# Altium footprint library Inductors_TH.PcbLib: 26 footprints (part 1 of 2)
Each footprint in its own frame and in the unit in brackets; x right, y up, seen from the top. Pads: shape width x height; smd on the part's side, far side on the other; paste and mask are expansions set on the pad; w line width, h text height; cw(c..) or ccw(c..) is an arc to the next point about the centre after c.
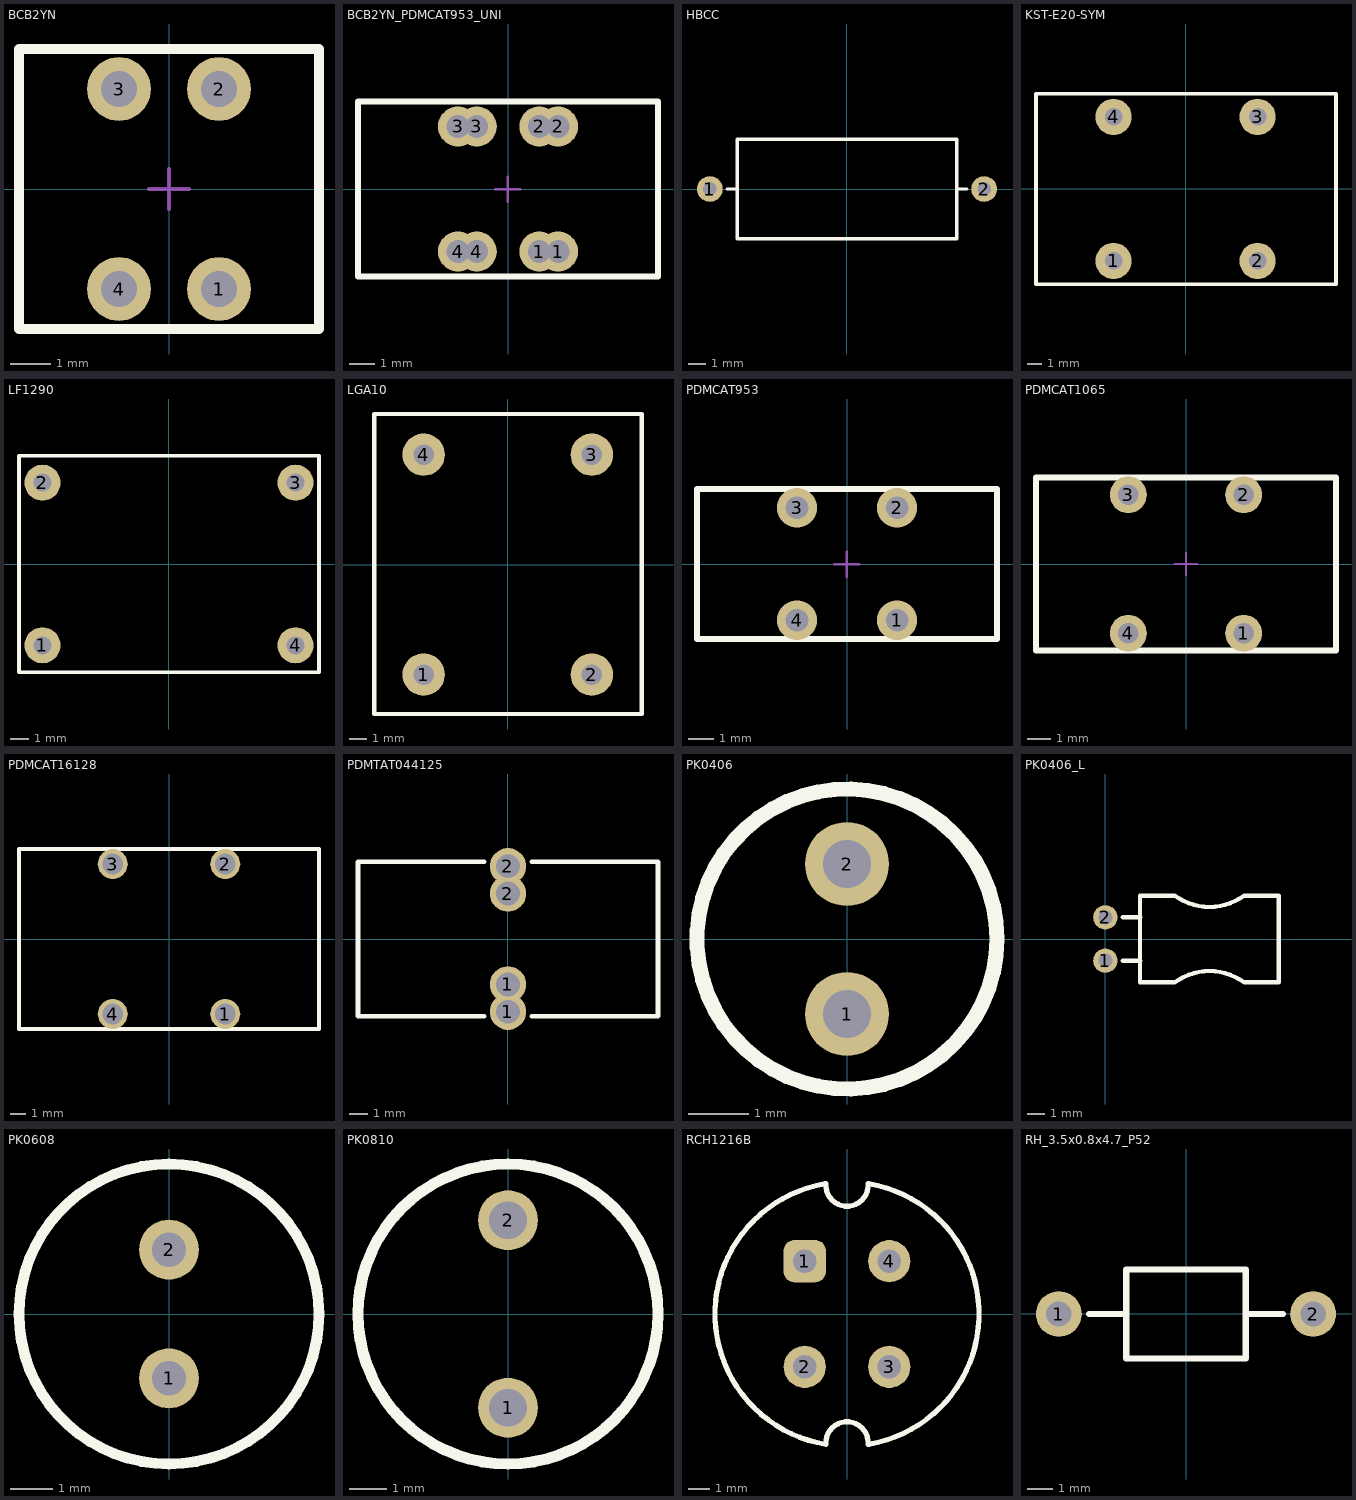
[diagram p0: the footprints below, top view; thin cyan lines are the x and y axes]

## BCB2YN [mm]
height 17
pads (4):
  round 1.6 hole 0.9: 1(1.25,-2.5) 2(1.25,2.5) 3(-1.25,2.5) 4(-1.25,-2.5)
Top Overlay:
  lines w0.25: -3.75,-3.5 3.75,-3.5 3.75,3.5 -3.75,3.5 -3.75,-3.5
Mechanical 15:
  lines w0.1: -0.5,0 0.5,0 ; 0,-0.5 0,0.5
3D body: height 2, standoff -3, extent 0.95,-2.8 1.55,-2.2
3D body: height 2, standoff -3, extent 0.95,2.2 1.55,2.8
3D body: height 2, standoff -3, extent -1.55,2.2 -0.95,2.8
3D body: height 2, standoff -3, extent -1.55,-2.8 -0.95,-2.2
3D body: height 10, standoff 2.5, extent -3.75,-2 3.75,2
3D body: height 8, standoff 0, extent -3.75,-3.5 3.75,3.5

## BCB2YN_PDMCAT953_UNI [mm]
height 17
pads (8):
  round 1.6 hole 0.9: 1(1.25,-2.5) 1(2,-2.5) 2(1.25,2.5) 2(2,2.5) 3(-2,2.5) 3(-1.25,2.5) 4(-2,-2.5) 4(-1.25,-2.5)
Top Overlay:
  lines w0.25: -6,-3.5 6,-3.5 6,3.5 -6,3.5 -6,-3.5
Mechanical 15:
  lines w0.1: -0.5,0 0.5,0 ; 0,-0.5 0,0.5
3D body: height 2, standoff -3, extent 1.7,-2.8 2.3,-2.2
3D body: height 2, standoff -3, extent 1.7,2.2 2.3,2.8
3D body: height 2, standoff -3, extent -2.3,-2.8 -1.7,-2.2
3D body: height 2, standoff -3, extent -2.3,2.2 -1.7,2.8
3D body: height 11, standoff 0, extent -5.5,-2.5 5.5,2.5
3D body: height 8, standoff 0, extent -3.75,-3.5 3.75,3.5

## HBCC [mm]
height 6
pads (2):
  round 1.5 hole 0.8: 1(-8,0) 2(8,0)
Top Overlay:
  lines w0.2: -7,0 -6.4,0 ; 6.4,0 7,0 ; -6.4,-2.9 -6.4,2.9 6.4,2.9 6.4,-2.9 -6.4,-2.9
3D body "Axial_3x10x0.STEP": height 3.3, standoff -2.5, extent -2,-0.3 8.3,0.3
3D body "Axial_3x10x0.STEP": height 3.3, standoff -2.5, extent -8.3,-0.3 2,0.3
3D body: height 5.9, standoff 0.1, extent -6.4,-2.897 -0.6,2.897
3D body: height 5.9, standoff 0.1, extent 0.6,-2.897 6.4,2.897
3D body: height 5.2, standoff 0.8, extent -3,-2.2 3,2.2

## KST-E20-SYM [mm]
pads (4):
  round 2.5 hole 1.2: 1(-4.953,-4.953) 2(4.953,-4.953) 3(4.953,4.953) 4(-4.953,4.953)
Top Overlay:
  lines w0.254: -10.287,-6.553 -10.287,6.547 10.347,6.547 10.347,-6.553 -10.287,-6.553
3D body "KST-E20-SYM.STEP": height 20.3, standoff -3.1, extent -9.953,-6.053 10.047,5.947

## LF1290 [mm] "AC COMMON MODE COIL <Pin Type: LF Series> LF1290"
height 9
pads (4):
  round 2 hole 1: 1(-7,-4.5) 2(-7,4.5) 3(7,4.5) 4(7,-4.5)
Top Overlay:
  lines w0.2: -8.3,-6 -8.3,6 8.3,6 8.3,-6 -8.3,-6
3D body "LF1290.STEP": height 9.3, standoff -2.5, extent -8,-6.01 8,6

## LGA10 [mm]
pads (4):
  round 2.5 hole 1.2: 1(-4.953,-6.477) 2(4.953,-6.477) 3(4.953,6.477) 4(-4.953,6.477)
Top Overlay:
  lines w0.254: -7.873,-8.8 -7.873,8.873 7.9,8.873 7.9,-8.8 -7.873,-8.8
3D body "PLA10.STEP": height 16.4, standoff -3.2, extent -7.5,-8.385 7.5,8.407

## PDMCAT953 [mm]
height 17
pads (4):
  round 1.6 hole 0.9: 1(2,-2.25) 2(2,2.25) 3(-2,2.25) 4(-2,-2.25)
Top Overlay:
  lines w0.25: -6,-3 6,-3 6,3 -6,3 -6,-3
Mechanical 15:
  lines w0.1: -0.5,0 0.5,0 ; 0,-0.5 0,0.5
3D body: height 11, standoff 0, extent -5.5,-2.5 5.5,2.5
3D body: height 2, standoff -3, extent -2.25,-2.5 -1.75,-2
3D body: height 2, standoff -3, extent -2.25,2 -1.75,2.5
3D body: height 2, standoff -3, extent 1.75,2 2.25,2.5
3D body: height 2, standoff -3, extent 1.75,-2.5 2.25,-2

## PDMCAT1065 [mm]
height 17
pads (4):
  round 1.6 hole 0.9: 1(2.5,-3) 2(2.5,3) 3(-2.5,3) 4(-2.5,-3)
Top Overlay:
  lines w0.25: -6.5,-3.75 6.5,-3.75 6.5,3.75 -6.5,3.75 -6.5,-3.75
Mechanical 15:
  lines w0.1: -0.5,0 0.5,0 ; 0,-0.5 0,0.5
3D body: height 12.75, standoff -0.25, extent -6.5,-3.75 6.5,3.75
3D body: height 2, standoff -3, extent -2.8,-3.3 -2.2,-2.7
3D body: height 2, standoff -3, extent -2.8,2.7 -2.2,3.3
3D body: height 2, standoff -3, extent 2.2,2.7 2.8,3.3
3D body: height 2, standoff -3, extent 2.2,-3.3 2.8,-2.7

## PDMCAT16128 [mm]
height 18
pads (4):
  round 2 hole 1.4: 1(3.75,-5) 2(3.75,5) 3(-3.75,5) 4(-3.75,-5)
Top Overlay:
  lines w0.25: -10,-6 -10,6 10,6 10,-6 -10,-6
3D body: height 2, standoff -3, extent -4.25,4.5 -3.25,5.5
3D body: height 18, standoff 0, extent -9,-6 9,6
3D body: height 2, standoff -3, extent 3.25,4.5 4.25,5.5
3D body: height 2, standoff -3, extent -4.25,-5.5 -3.25,-4.5
3D body: height 2, standoff -3, extent 3.25,-5.5 4.25,-4.5

## PDMTAT044125 [mm]
height 16
pads (4):
  round 2 hole 1.3: 1(0,-2.5) 1(0,-4) 2(0,2.5) 2(0,4)
Top Overlay:
  lines w0.25: -1.3,-4.25 -8.25,-4.25 -8.25,4.25 -1.3,4.25 ; 1.3,-4.25 8.25,-4.25 8.25,4.25 1.3,4.25
3D body: height 2, standoff -3, extent -0.5,3.5 0.5,4.5
3D body: height 2, standoff -3, extent -0.5,-4.5 0.5,-3.5
3D body: height 16.5, standoff 0, extent -8.25,-4.25 8.25,4.25

## PK0406 [mm] "INDUCTANCE"
height 8
pads (2):
  round 1.4 hole 0.8: 1(0,-1.25) 2(0,1.25)
Top Overlay:
  circle w0.25: c0,0 r2.5
3D body: height 8, standoff 0, extent -2.5,-2.497 2.5,2.497
3D body: height 0.5, standoff -2.5, extent -0.273,-1.524 0.275,-0.975
3D body: height 0.5, standoff -2.5, extent -0.273,0.976 0.275,1.525

## PK0406_L [mm] "INDUCTANCE"
height 5.1
pads (2):
  round 1.4 hole 0.8: 1(0,-1.25) 2(0,1.25)
Top Overlay:
  lines w0.25: 2,-2.5 2,2.5 ; 4,-2.5 cw(c6,-5.25) 8,-2.5 ; 4,2.5 ccw(c6,5.25) 8,2.5 ; 10,-2.5 10,2.5
  lines w0.254: 1,-1.25 2,-1.25 ; 1,1.25 2,1.25 ; 2,-2.5 4,-2.5 ; 2,2.5 4,2.5 ; 8,-2.5 10,-2.5 ; 8,2.5 10,2.5
3D body: height 5.1, standoff 0.1, extent 2,-2.494 10,2.5
3D body "pin_3x5.5x0.55.STEP": height 2.88, standoff -2.9, extent -0.263,0.975 3.012,1.525
3D body "pin_3x5.5x0.55.STEP": height 2.88, standoff -2.9, extent -0.263,-1.525 3.012,-0.975
3D body: height 0.5, standoff -2.5, extent -0.273,-1.524 0.275,-0.975
3D body: height 0.5, standoff -2.5, extent -0.273,0.976 0.275,1.525

## PK0608 [mm] "INDUCTANCE"
height 10
pads (2):
  round 1.4 hole 0.8: 1(0,-1.5) 2(0,1.5)
Top Overlay:
  circle w0.25: c0,0 r3.5
3D body: height 10, standoff 0, extent -3.5,-3.497 3.5,3.497
3D body: height 0.5, standoff -2.5, extent -0.322,-1.824 0.325,-1.175
3D body: height 0.5, standoff -2.5, extent -0.322,1.176 0.325,1.825

## PK0810 [mm] "Дроссель на сердечнике"
height 10
pads (2):
  round 1.6 hole 1: 1(0,-2.5) 2(0,2.5)
Top Overlay:
  circle w0.3: c0,0 r4
3D body "PK0810.STEP": height 10.6, standoff -3.4, extent -4,-4 4,4

## RCH1216B [mm] "PIN Power Inductor RCH1216B"
height 16
pads (4):
  rrect50% 2x2 hole 1.1: 1(-2,2.5)
  round 2 hole 1.1: 2(-2,-2.5) 3(2,-2.5) 4(2,2.5)
Top Overlay:
  lines w0.25: -1.027,6.165 ccw(c0,0) -0.995,-6.17 ; -0.998,-6.167 cw(c0,-6.1) 0.998,-6.167 ; -0.998,6.167 ccw(c0,6.1) 0.998,6.167 ; 1.027,-6.165 ccw(c0,0) 1.027,6.165
3D body: height 16.1, standoff 0.1, extent -6.25,-6.347 6.25,6.147

## RH_3.5x0.8x4.7_P52 [mm]
height 3.6
pads (2):
  round 1.8 hole 1: 1(-5,0) 2(5,0)
Top Overlay:
  lines w0.254: -3.8,0 -2.35,0 ; 2.35,0 3.8,0 ; -2.35,-1.75 2.35,-1.75 2.35,1.75 -2.35,1.75 -2.35,-1.75
3D body "Pin_0.8_6x6.STEP": height 2.4, standoff -4, extent -5.4,-0.4 1,0.4
3D body "Pin_0.8_6x6.STEP": height 2.4, standoff -4, extent -1,-0.4 5.4,0.4
3D body: height 3.55, standoff 0.05, extent -2.35,-1.75 2.35,1.75